# Altium integrated library TS10-63-26-BE-250-SMT-TR.IntLib: 1 symbol
Pins are listed as number, name and electrical type; pins without a type are passive.

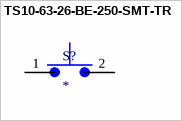
[diagram p0: symbol TS10-63-26-BE-250-SMT-TR]

## TS10-63-26-BE-250-SMT-TR
designator S?
MP: TS10-63-26-BE-250-SMT-TR; Value: *; Package: None; Price: None; Availability: Unavailable
footprint SW_TS10-63-26-BE-250-SMT-TR
pins: 1, 2